# Altium schematic symbol library User.SchLib: 5 symbols
Pins are listed as number, name and electrical type; pins without a type are passive.

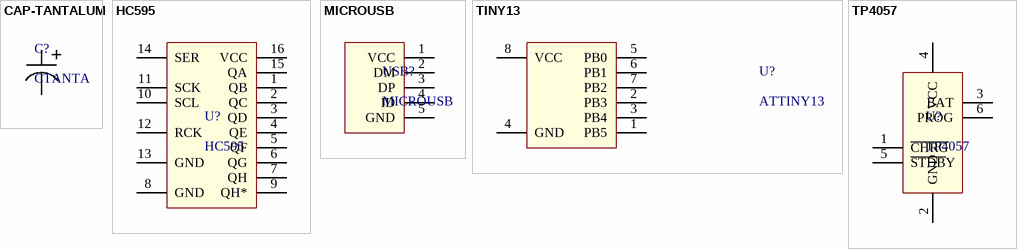
[diagram p0: symbols CAP-TANTALUM to TP4057]

## CAP-TANTALUM
designator C?, comment CTANTA
footprint CAP1411
pins: 1, 2

## HC595
designator U?
footprint SOP16
pins: 1 QB, 2 QC, 3 QD, 4 QE, 5 QF, 6 QG, 7 QH, 8 GND, 9 QH*, 10 SCL, 11 SCK, 12 RCK, 13 GND, 14 SER, 15 QA, 16 VCC

## MICROUSB
designator USB?
footprint MICROUSB
pins: 1 VCC, 2 DM, 3 DP, 4 ID, 5 GND

## TINY13
designator U?, comment ATTINY13
footprint TINY13
pins: 1 PB5, 2 PB3, 3 PB4, 4 GND, 5 PB0, 6 PB1, 7 PB2, 8 VCC

## TP4057
designator U?
footprint SOT23-6
pins: 1 ~{CHRG}, 2 GND, 3 BAT, 4 VCC, 5 ~{STDB}Y, 6 PROG